# EAGLE library part SN74LVC4245ADW (library SN74LVC4245ADW)
SN74LVC4245ADW, Bus Transceiver LVC, 8-Bit Non-Inverting 2.7 to 3.6, 4.5 to 5.5V 24-Pin SOIC Source: Datasheet <https://datasheet.datasheetarchive.com/originals/distributors/Datasheets-302/24314.pdf>
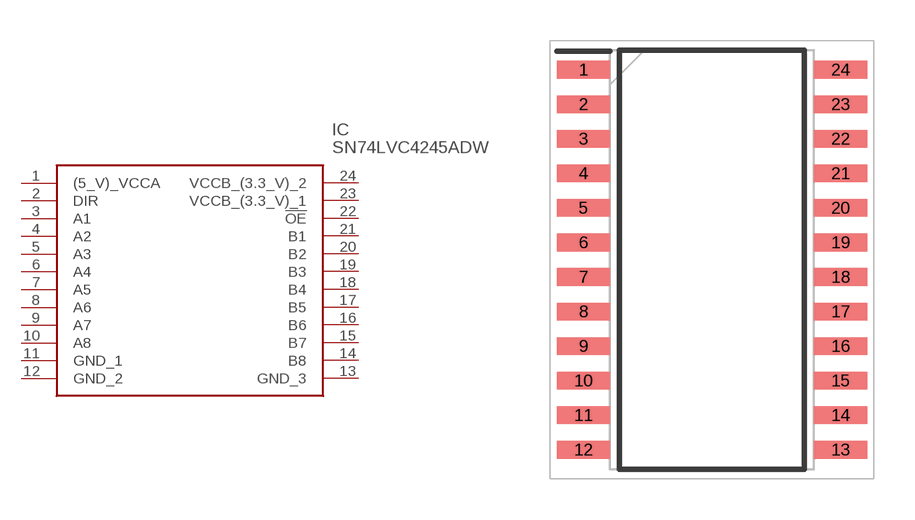
[diagram p0: symbol with the pads of SOIC127P1030X265-24N; footprint SOIC127P1030X265-24N]

Designator prefix IC

## SN74LVC4245ADW (Description: SN74LVC4245ADW, Bus Transceiver LVC, 8-Bit Non-Inverting 2.7 to 3.6, 4.5 to 5.5V 24-Pin SOIC; Height: 2.65mm; Manufacturer_Name: Texas Instruments; Manufacturer_Part_Number: SN74LVC4245ADW; Mouser_Part_Number: 595-SN74LVC4245ADW; Mouser_Price-Stock: https://www.mouser.co.uk/ProductDetail/Texas-Instruments/SN74LVC4245ADW?qs=IF4wzcbwb3pAUkmD9hpWmw%3D%3D)  [SOIC127P1030X265-24N]
1  (5_V)_VCCA
2  DIR
3  A1
4  A2
5  A3
6  A4
7  A5
8  A6
9  A7
10  A8
11  GND_1
12  GND_2
13  GND_3
14  B8
15  B7
16  B6
17  B5
18  B4
19  B3
20  B2
21  B1
22  !OE
23  VCCB_(3.3_V)_1
24  VCCB_(3.3_V)_2

## Footprint SOIC127P1030X265-24N (pad centres in mm)
DW (R-PDSO-G24)
smd 1.95 x 0.65: 1 -4.725,6.985; 2 -4.725,5.715; 3 -4.725,4.445; 4 -4.725,3.175; 5 -4.725,1.905; 6 -4.725,0.635; 7 -4.725,-0.635; 8 -4.725,-1.905; 9 -4.725,-3.175; 10 -4.725,-4.445; 11 -4.725,-5.715; 12 -4.725,-6.985; 13 4.725,-6.985; 14 4.725,-5.715; 15 4.725,-4.445; 16 4.725,-3.175; 17 4.725,-1.905; 18 4.725,-0.635; 19 4.725,0.635; 20 4.725,1.905; 21 4.725,3.175; 22 4.725,4.445; 23 4.725,5.715; 24 4.725,6.985